# Altium integrated library Passive.IntLib: 7 symbols
Pins are listed as number, name and electrical type; pins without a type are passive.

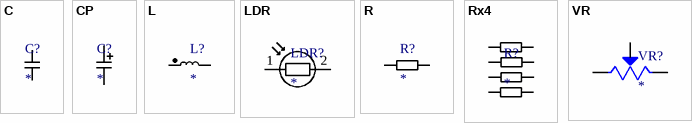
[diagram p0: symbols C to VR]

## C
designator C?
Capacitors IPC; CompCode: *
footprint 0402_HD_CAPC1005X04L (Chip Capacitor, 2-Leads, Body 0.95x0.50mm, IPC High Density)
footprint 0402_LD_CAPC1005X04M (Chip Capacitor, 2-Leads, Body 0.95x0.50mm, IPC Low Density)
footprint 0402_MD_CAPC1005X04N (Chip Capacitor, 2-Leads, Body 0.95x0.50mm, IPC Medium Density)
footprint 0603_HD_CAPC1608X04L (Chip Capacitor, 2-Leads, Body 1.60x0.80mm, IPC High Density)
footprint 0603_LD_CAPC1608X04M (Chip Capacitor, 2-Leads, Body 1.60x0.80mm, IPC Low Density)
footprint 0603_MD_CAPC1608X04N (Chip Capacitor, 2-Leads, Body 1.60x0.80mm, IPC Medium Density)
footprint 0805_HD_CAPC2012X05L (Chip Capacitor, 2-Leads, Body 2.00x1.25mm, IPC High Density)
footprint 0805_LD_CAPC2012X05M (Chip Capacitor, 2-Leads, Body 2.00x1.25mm, IPC Low Density)
footprint 0805_MD_CAPC2012X05N (Chip Capacitor, 2-Leads, Body 2.00x1.25mm, IPC Medium Density)
footprint 1206_HD_CAPC3216X06L (Chip Capacitor, 2-Leads, Body 3.20x1.60mm, IPC High Density)
footprint 1206_LD_CAPC3216X06M (Chip Capacitor, 2-Leads, Body 3.20x1.60mm, IPC Low Density)
footprint 1206_MD_CAPC3216X06N (Chip Capacitor, 2-Leads, Body 3.20x1.60mm, IPC Medium Density)
footprint B32521
footprint 2220_HD_CAPC5750X23L (Chip Capacitor, 2-Leads, Body 5.70x5.00mm, IPC High Density)
footprint 2220_LD_CAPC5750X23M (Chip Capacitor, 2-Leads, Body 5.70x5.00mm, IPC Low Density)
footprint 2220_MD_CAPC5750X23N (Chip Capacitor, 2-Leads, Body 5.70x5.00mm, IPC Medium Density)
footprint CAPRB750W60L1150T500H1550
pins: 1, 2
1 alternate drawing of the same symbol

## CP
designator C?
Capacitors IPC; CompCode: *
footprint 6.3x5.4_HD_CAPAE7266X54L (Aluminum Electrolytic Capacitor, Body 6.60x6.60x5.40mm, IPC High Density)
footprint 6.3x5.4_LD_CAPAE7266X54M (Aluminum Electrolytic Capacitor, Body 6.60x6.60x5.40mm, IPC Low Density)
footprint 6.3x5.4_MD_CAPAE7266X54N (Aluminum Electrolytic Capacitor, Body 6.60x6.60x5.40mm, IPC Medium Density)
footprint 10x10.5_HD_CAPAE117103X105L (Aluminum Electrolytic Capacitor, Body 10.30x10.30x10.50mm, IPC High Density)
footprint 10x10.5_LD_CAPAE117103X105M (Aluminum Electrolytic Capacitor, Body 10.30x10.30x10.50mm, IPC Low Density)
footprint 10x10.5_MD_CAPAE117103X105N (Aluminum Electrolytic Capacitor, Body 10.30x10.30x10.50mm, IPC Medium Density)
footprint 3216_18_HD_CAPMP3216X07L (Molded Capacitor, 2-Leads, Body 3.20x1.65mm, IPC High Density)
footprint 3216_18_LD_CAPMP3216X07M (Molded Capacitor, 2-Leads, Body 3.20x1.65mm, IPC Low Density)
footprint 3216_18_MD_CAPMP3216X07N (Molded Capacitor, 2-Leads, Body 3.20x1.65mm, IPC Medium Density)
footprint 3528_21_HD_CAPMP3528X19L (Molded Capacitor, 2-Leads, Body 3.50x2.85mm, IPC High Density)
footprint 3528_21_LD_CAPMP3528X19M (Molded Capacitor, 2-Leads, Body 3.50x2.85mm, IPC Low Density)
footprint 3528_21_MD_CAPMP3528X19N (Molded Capacitor, 2-Leads, Body 3.50x2.85mm, IPC Medium Density)
footprint 6032_28_HD_CAPMP6028X26L (Molded Capacitor, 2-Leads, Body 6.00x2.85mm, IPC High Density)
footprint 6032_28_LD_CAPMP6028X26M (Molded Capacitor, 2-Leads, Body 6.00x2.85mm, IPC Low Density)
footprint 6032_28_МD_CAPMP6028X26N (Molded Capacitor, 2-Leads, Body 6.00x2.85mm, IPC Medium Density)
footprint CAP-5$d10$l20_H
footprint DIP CAP-D10
footprint DIP CAP-D16
footprint 6.3x7.7_HD_CAPAE7666X77L (Aluminum Electrolytic Capacitor, Body 6.60x6.60x7.70mm, IPC High Density)
footprint 6.3x7.7_LD_CAPAE7666X77M (Aluminum Electrolytic Capacitor, Body 6.60x6.60x7.70mm, IPC Low Density)
footprint 6.3x7.7_MD_CAPAE7666X77N (Aluminum Electrolytic Capacitor, Body 6.60x6.60x7.70mm, IPC Medium Density)
footprint 7343_43_HD_CAPMP7343X41L (Molded Capacitor, 2-Leads, Body 7.30x4.30mm, IPC High Density)
footprint 7343_43_LD_CAPMP7343X41M (Molded Capacitor, 2-Leads, Body 7.30x4.30mm, IPC Low Density)
footprint 7343_43_MD_CAPMP7343X41N (Molded Capacitor, 2-Leads, Body 7.30x4.30mm, IPC Medium Density)
footprint DIP CAP-D22
footprint DIP CAP-D16_90
pins: 1, 2
1 alternate drawing of the same symbol

## L
designator L?
Inductor IPC; CompCode: *
footprint PQ2617
footprint 50125 H
footprint 50125 V
footprint 90125_V
footprint WHC0650_HD_INDP7566X50L (Precision Wire Wound Inductor, 2-Leads, Body 7.50x6.60mm, IPC High Density)
footprint WHC0650_LD_INDP7566X50M (Precision Wire Wound Inductor, 2-Leads, Body 7.50x6.60mm, IPC Low Density)
footprint WHC0650_MD_INDP7566X50N (Precision Wire Wound Inductor, 2-Leads, Body 7.50x6.60mm, IPC Medium Density)
footprint WHC1040_HD_INDP116101X40L (Precision Wire Wound Inductor, 2-Leads, Body 11.60x10.10mm, IPC High Density)
footprint WHC1040_LD_INDP116101X40M (Precision Wire Wound Inductor, 2-Leads, Body 11.60x10.10mm, IPC Low Density)
footprint WHC1040_MD_INDP116101X40N (Precision Wire Wound Inductor, 2-Leads, Body 11.60x10.10mm, IPC Medium Density)
footprint WHC1265_HD_INDP138126X65L (Precision Wire Wound Inductor, 2-Leads, Body 13.80x12.60mm, IPC High Density)
footprint WHC1265_LD_INDP138126X65M (Precision Wire Wound Inductor, 2-Leads, Body 13.80x12.60mm, IPC Low Density)
footprint WHC1265_MD_INDP138126X65N (Precision Wire Wound Inductor, 2-Leads, Body 13.80x12.60mm, IPC Medium Density)
footprint LQH32P_HD_INDP3225X17L (Precision Wire Wound Inductor, 2-Leads, Body 3.20x2.50mm, IPC High Density)
footprint LQH32P_LD_INDP3225X17M (Precision Wire Wound Inductor, 2-Leads, Body 3.20x2.50mm, IPC Low Density)
footprint LQH32P_MD_INDP3225X17N (Precision Wire Wound Inductor, 2-Leads, Body 3.20x2.50mm, IPC Medium Density)
footprint CEP1812NP
footprint IND_LQH55DN4R7M03L
pins: 1, 2
1 alternate drawing of the same symbol

## LDR
designator LDR?
Photoresistor; CompCode: 8952
footprint GT36528
pins: 1, 2

## R
designator R?
Resistors IPC; CompCode: *
footprint 0402_HD_RESC1005X04L (Chip Resistor, 2-Leads, Body 0.95x0.50mm, IPC High Density)
footprint 0402_LD_RESC1005X04M (Chip Resistor, 2-Leads, Body 0.95x0.50mm, IPC Low Density)
footprint 0402_MD_RESC1005X04N (Chip Resistor, 2-Leads, Body 0.95x0.50mm, IPC Medium Density)
footprint 0603_HD_RESC1608X06L (Chip Resistor, 2-Leads, Body 1.60x0.80mm, IPC High Density)
footprint 0603_MD_RESC1608X06N (Chip Resistor, 2-Leads, Body 1.60x0.80mm, IPC Medium Density)
footprint 0603_LD_RESC1608X06M (Chip Resistor, 2-Leads, Body 1.60x0.80mm, IPC Low Density)
footprint 0805_HD_RESC2012X06L (Chip Resistor, 2-Leads, Body 2.00x1.25mm, IPC High Density)
footprint 0805_LD_RESC2012X06M (Chip Resistor, 2-Leads, Body 2.00x1.25mm, IPC Low Density)
footprint 0805_MD_RESC2012X06N (Chip Resistor, 2-Leads, Body 2.00x1.25mm, IPC Medium Density)
footprint 1206_HD_RESC3216X08L (Chip Resistor, 2-Leads, Body 3.25x1.60mm, IPC High Density)
footprint 1206_LD_RESC3216X08M (Chip Resistor, 2-Leads, Body 3.25x1.60mm, IPC Low Density)
footprint 1206_MD_RESC3216X08N (Chip Resistor, 2-Leads, Body 3.25x1.60mm, IPC Medium Density)
footprint 2512_HD_RESC6432X08L (Chip Resistor, 2-Leads, Body 6.40x3.20mm, IPC High Density)
footprint 2512_LD_RESC6432X08M (Chip Resistor, 2-Leads, Body 6.40x3.20mm, IPC Low Density)
footprint 2512_MD_RESC6432X08N (Chip Resistor, 2-Leads, Body 6.40x3.20mm, IPC Medium Density)
footprint THT_Shunt
pins: 1, 2
1 alternate drawing of the same symbol

## Rx4
designator R?
Resistors array IPC; CompCode: *
footprint SMD_0804_HD_CAC-50P200X100-8L (Chip Array, Concave, 8-Leads, Pitch 0.50mm,  Body 2.00x1.00mm,  IPC High Density)
footprint SMD_0804_LD_CAC-50P200X100-8M (Chip Array, Concave, 8-Leads, Pitch 0.50mm,  Body 2.00x1.00mm,  IPC Low Density)
footprint SMD_0804_MD_CAC-50P200X100-8N (Chip Array, Concave, 8-Leads, Pitch 0.50mm,  Body 2.00x1.00mm,  IPC Medium Density)
pins: 1, 1, 1, 1, 2, 2, 2, 2
1 alternate drawing of the same symbol

## VR
designator VR?
10 kOhms 0.5W, 1/2W PC Pins Through Hole Trimmer Potentiometer Cermet 25.0 Turn Top Adjustment; MP: 3296W-1-103; MF: Bourns; Purchase-URL: https://pricing.snapeda.com/search/part/3296W-1-103/?ref=eda; Value: *; Availability: In Stock; Check_prices: https://www.snapeda.com/parts/3296W-1-103/Bourns/view-part/?ref=eda; SnapEDA_Link: https://www.snapeda.com/parts/3296W-1-103/Bourns/view-part/?ref=snap; Price: None; Package: SOT-23-5 Bourns
footprint TRIM_3296W-1-103
footprint TRIM_TC33X-2-105E
footprint TRIM_3224W1103E
pins: 1 CCW, 2 WIPER, 3 CW